# Altium integrated library ATK-OV7670摄像头模块.IntLib: 8 symbols
Pins are listed as number, name and electrical type; pins without a type are passive.

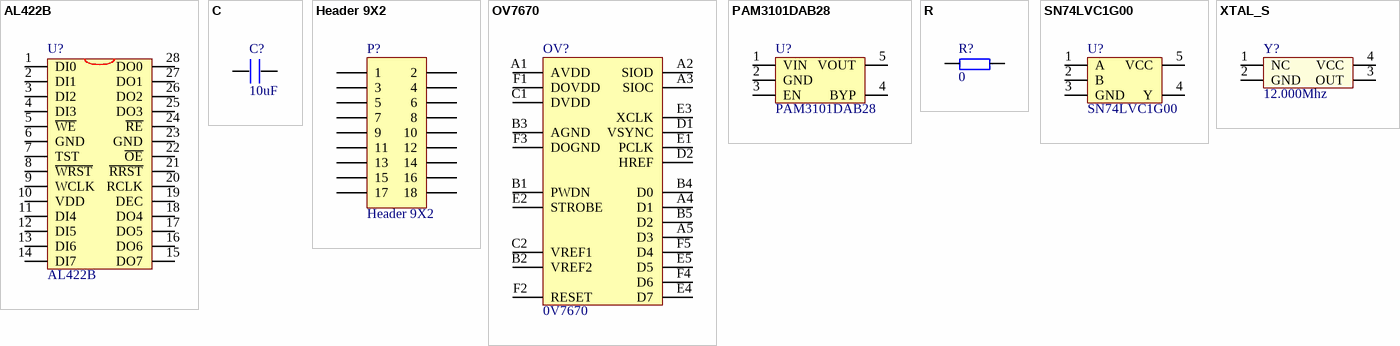
[diagram p0: symbols AL422B to XTAL_S]

## AL422B
designator U?
FIFO
footprint PSOP28 (e:1,27mm;H:11.81mm;D:18.11mm;B:0.41mm;)
pins: 1 DI0, 2 DI1, 3 DI2, 4 DI3, 5 ~{WE}, 6 GND, 7 TST, 8 ~{WRST}, 9 WCLK, 10 VDD, 11 DI4, 12 DI5, 13 DI6, 14 DI7, 15 DO7, 16 DO6, 17 DO5, 18 DO4, 19 DEC, 20 RCLK, 21 ~{RRST}, 22 ~{OE}, 23 GND, 24 ~{RE}, 25 DO3, 26 DO2, 27 DO1, 28 DO0

## C
designator C?, comment 10uF
footprint 0603P
footprint 0805
footprint CC5.08 (CAP0.1)
footprint CC4.572 (222/332)
footprint 1206
footprint 1210
footprint CC6.096
footprint CC7.62
footprint CVAR (4MM*6.6MM)
pins: 1, 2

## Header 9X2
designator P?
Header, 9-Pin, Dual row; LatestRevisionDate: 17-Jul-2002; LatestRevisionNote: Re-released for DXP Platform.; Publisher: Altium Limited
footprint HDR2X9 (Connector; Header; 9x2 Position)
signal-integrity model Connector
pins: 1, 2, 3, 4, 5, 6, 7, 8, 9, 10, 11, 12, 13, 14, 15, 16, 17, 18

## OV7670
designator OV?, comment 0V7670
footprint BGA24 (BGA, 24-Leads, Body 4.2x3.8mm,  Pitch 0.62mm)
footprint OV7670-18 (BGA, 24-Leads, Body 4.2x3.8mm,  Pitch 0.62mm)
footprint OV7670-22 (BGA, 24-Leads, Body 4.2x3.8mm,  Pitch 0.62mm)
pins: A1 AVDD, A2 SIOD, A3 SIOC, A4 D1, A5 D3, B1 PWDN, B2 VREF2, B3 AGND, B4 D0, B5 D2, C1 DVDD, C2 VREF1, D1 VSYNC, D2 HREF, E1 PCLK, E2 STROBE, E3 XCLK, E4 D7, E5 D5, F1 DOVDD, F2 RESET, F3 DOGND, F4 D6, F5 D4

## PAM3101DAB28
designator U?
2.8V稳压IC
footprint SOT-23-5
pins: 1 VIN, 2 GND, 3 EN, 4 BYP, 5 VOUT

## R
designator R?, comment 0
footprint 0805
footprint 0603P
footprint RL (10o/0.7uH)
footprint R16.0 (RX/1W)
footprint 1206
footprint 1210
footprint R20.0 (RX/2W)
footprint R10.16 (STD)
footprint RLN9 (13.5mm*5.1mm)
pins: 1, 2

## SN74LVC1G00
designator U?
2输入与非门
footprint SOT-23-5
pins: 1 A, 2 B, 3 GND, 4 Y, 5 VCC

## XTAL_S
designator Y?, comment 12.000Mhz
有源晶振
footprint XTAL_S (XTAL_OSC)
footprint XTAL3225 (3.2mm*2.5mm)
pins: 1 NC, 2 GND, 3 OUT, 4 VCC